# Altium footprint library SRP1265A-330M.PcbLib: 1 footprints
Each footprint in its own frame and in the unit in brackets; x right, y up, seen from the top. Pads: shape width x height; smd on the part's side, far side on the other; paste and mask are expansions set on the pad; w line width, h text height; cw(c..) or ccw(c..) is an arc to the next point about the centre after c.
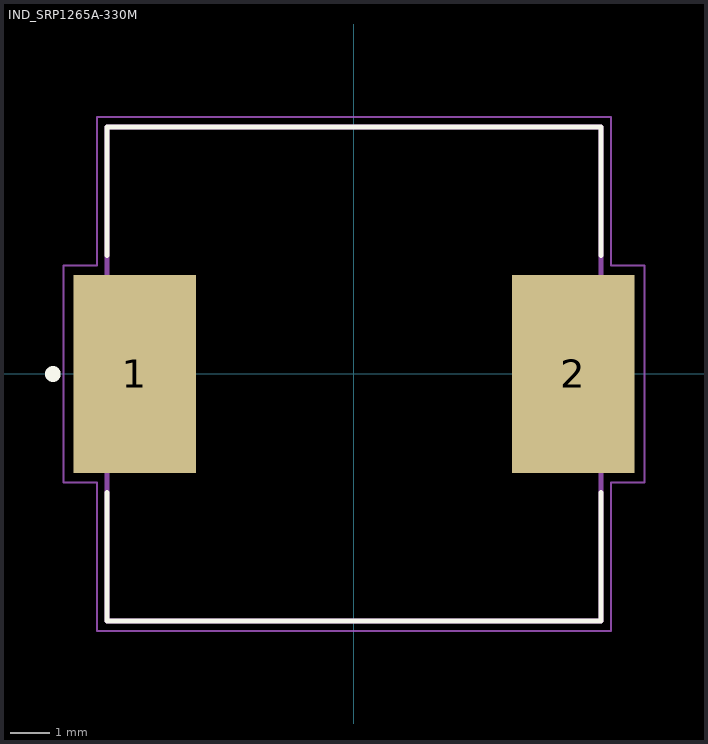
[diagram p0: the footprint, top view; thin cyan lines are the x and y axes]

## IND_SRP1265A-330M [mm]
pads (2):
  rect 3.1x5 smd: 1(-5.55,0) 2(5.55,0)
Top Overlay:
  circle w0.2: c-7.62,0 r0.1
  lines w0.127: -6.25,-3 -6.25,-6.25 6.25,-6.25 6.25,-3 ; -6.25,3 -6.25,6.25 6.25,6.25 6.25,3
Mechanical 13:
  lines w0.127: -6.25,-6.25 -6.25,6.25 6.25,6.25 6.25,-6.25 -6.25,-6.25
Mechanical 15:
  lines w0.05: -7.35,-2.75 -7.35,2.75 -6.5,2.75 -6.5,6.5 6.5,6.5 6.5,2.75 7.35,2.75 7.35,-2.75 6.5,-2.75 6.5,-6.5 -6.5,-6.5 -6.5,-2.75 -7.35,-2.75